# EAGLE library part LCD_SSD1289 (library Tari)
3.2" TFT LCD board with SD and touchscreen. Pins 33 and 34 provide 3.3V output when 5V power connected. If using 3.3V input, leave pins 1 and 2 NC. BLVCC is 3.3 or 5V. BLCNT is PWM control for backlight. Touch screen controller is an ADS7843.
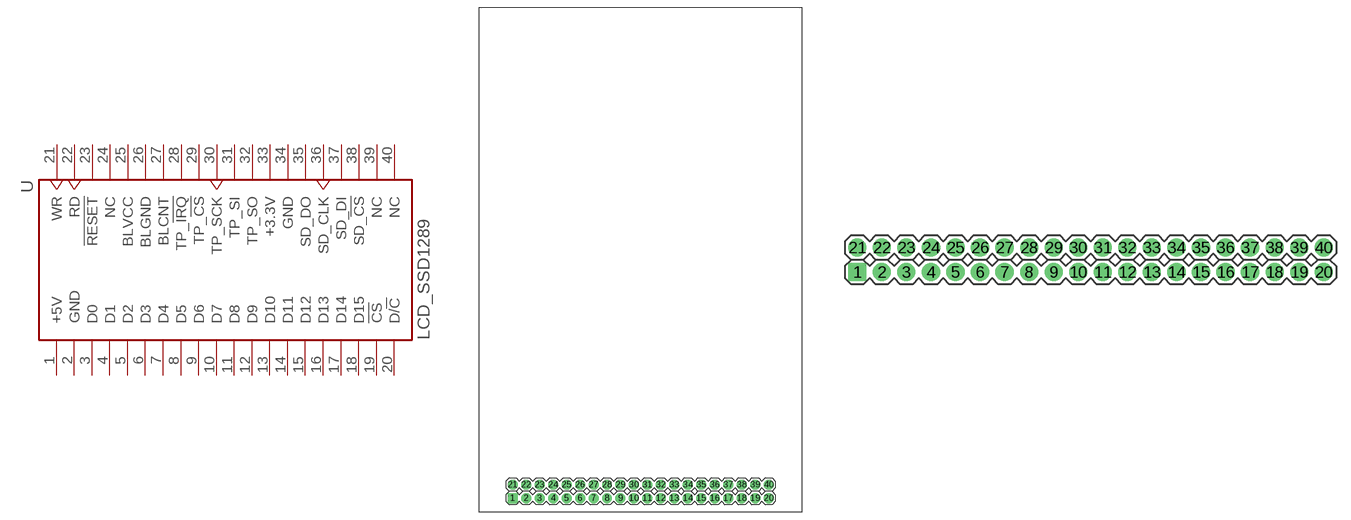
[diagram p8: symbol with the pads of LCD_SSD1289; footprints LCD_SSD1289, 2X20]

Designator prefix -

## LCD_SSD1289  [LCD_SSD1289]
1  +5V  pwr
2  GND  pwr
3  D0
4  D1
5  D2
6  D3
7  D4
8  D5
9  D6
10  D7
11  D8
12  D9
13  D10
14  D11
15  D12
16  D13
17  D14
18  D15
19  !CS  in
20  D/!C  in
21  WR  in
22  RD  in
23  !RESET
24  NC
25  BLVCC  pwr
26  BLGND  pwr
27  BLCNT  in
28  TP_!IRQ  out
29  TP_!CS  in
30  TP_SCK  in
31  TP_SI  in
32  TP_SO  out
33  +3.3V  pwr
34  GND  pwr
35  SD_DO  out
36  SD_CLK  in
37  SD_DI  in
38  SD_!CS  in
39  NC
40  NC

## LCD_SSD1289CABLE  [2X20]
Pads as for LCD_SSD1289

## Footprint LCD_SSD1289 (pad centres in mm)
SSD1289 LCD board outline.
drill 1.016 pad 1.88 square: 1 0,0
drill 1.016 pad 1.88 round: 2 2.54,0; 3 5.08,0; 4 7.62,0; 5 10.16,0; 6 12.7,0; 7 15.24,0; 8 17.78,0; 9 20.32,0; 10 22.86,0; 11 25.4,0; 12 27.94,0; 13 30.48,0; 14 33.02,0; 15 35.56,0; 16 38.1,0; 17 40.64,0; 18 43.18,0; 19 45.72,0; 20 48.26,0; 21 0,2.54; 22 2.54,2.54; 23 5.08,2.54; 24 7.62,2.54; 25 10.16,2.54; 26 12.7,2.54; 27 15.24,2.54; 28 17.78,2.54; 29 20.32,2.54; 30 22.86,2.54; 31 25.4,2.54; 32 27.94,2.54; 33 30.48,2.54; 34 33.02,2.54; 35 35.56,2.54; 36 38.1,2.54; 37 40.64,2.54; 38 43.18,2.54; 39 45.72,2.54; 40 48.26,2.54

## Footprint 2X20 (pad centres in mm)
drill 1.016 pad 1.88 square: 1 0,0
drill 1.016 pad 1.88 round: 2 2.54,0; 3 5.08,0; 4 7.62,0; 5 10.16,0; 6 12.7,0; 7 15.24,0; 8 17.78,0; 9 20.32,0; 10 22.86,0; 11 25.4,0; 12 27.94,0; 13 30.48,0; 14 33.02,0; 15 35.56,0; 16 38.1,0; 17 40.64,0; 18 43.18,0; 19 45.72,0; 20 48.26,0; 21 0,2.54; 22 2.54,2.54; 23 5.08,2.54; 24 7.62,2.54; 25 10.16,2.54; 26 12.7,2.54; 27 15.24,2.54; 28 17.78,2.54; 29 20.32,2.54; 30 22.86,2.54; 31 25.4,2.54; 32 27.94,2.54; 33 30.48,2.54; 34 33.02,2.54; 35 35.56,2.54; 36 38.1,2.54; 37 40.64,2.54; 38 43.18,2.54; 39 45.72,2.54; 40 48.26,2.54